# Altium integrated library WCAP-ASLI_rev15a.intlib: 107 symbols (part 2 of 3)
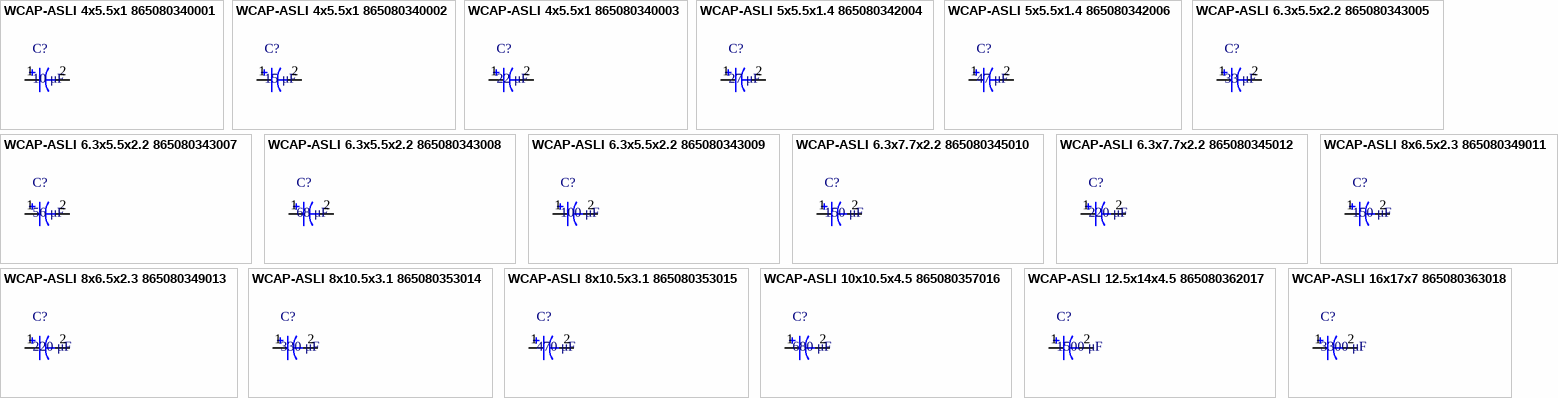
[diagram p6: symbols WCAP-ASLI 4x5.5x1 865080340001 to WCAP-ASLI 16x17x7 865080363018]

## WCAP-ASLI 8x6.5x2.3 865080349011
designator C?, comment 150 μF
WCAP-ASLI Aluminum Electrolytic Capacitors , 150 μF; + / - 20%; 16 V , 8 x 6,5; Manufacturer: Wurth Elektronik; partNo: 865080349011; E-mail: libraries@we-online.com; Characteristics: Aluminum Electrolytic Capacitor;Recommended soldering: Reflow;Operating temperature: –55 °C to +105 °C;Low impedance product series;Load life: 2000 h @ +105 °C; ComponentLink1Description: Manufacturer; ComponentLink1URL: http://www.we-online.com; ComponentLink2Description: Datasheet; ComponentLink2URL: http://katalog.we-online.de/pbs/datasheet/865080349011.pdf; Created by: Karrer Zheng; Created Date: 5/13/2015; Capacitance: 150 μF; Application: Energy storage or high frequency filtering in the low voltage circuit; used as power supply filtering in general switching power supply, DC-DC converter, AC-DC converter, conversion adapter, charger, TV, VCR, DC motor circuit filter, digital audio, digital TV, digital camera, digital video camera, satellite receiver, equipment control panel and etc.
footprint WCAP-ASLI 8x6.5x2.3
pins: 1, 2

## WCAP-ASLI 8x6.5x2.3 865080349013
designator C?, comment 220 μF
WCAP-ASLI Aluminum Electrolytic Capacitors , 220 μF; + / - 20%; 16 V , 8 x 6,5; Manufacturer: Wurth Elektronik; partNo: 865080349013; E-mail: libraries@we-online.com; Characteristics: Aluminum Electrolytic Capacitor;Recommended soldering: Reflow;Operating temperature: –55 °C to +105 °C;Low impedance product series;Load life: 2000 h @ +105 °C; ComponentLink1Description: Manufacturer; ComponentLink1URL: http://www.we-online.com; ComponentLink2Description: Datasheet; ComponentLink2URL: http://katalog.we-online.de/pbs/datasheet/865080349013.pdf; Created by: Karrer Zheng; Created Date: 5/13/2015; Capacitance: 220 μF; Application: Energy storage or high frequency filtering in the low voltage circuit; used as power supply filtering in general switching power supply, DC-DC converter, AC-DC converter, conversion adapter, charger, TV, VCR, DC motor circuit filter, digital audio, digital TV, digital camera, digital video camera, satellite receiver, equipment control panel and etc.
footprint WCAP-ASLI 8x6.5x2.3
pins: 1, 2

## WCAP-ASLI 8x10.5x3.1 865080353014
designator C?, comment 330 μF
WCAP-ASLI Aluminum Electrolytic Capacitors , 330 μF; + / - 20%; 16 V , 8 x 10,5; Manufacturer: Wurth Elektronik; partNo: 865080353014; E-mail: libraries@we-online.com; Characteristics: Aluminum Electrolytic Capacitor;Recommended soldering: Reflow;Operating temperature: –55 °C to +105 °C;Low impedance product series;Load life: 2000 h @ +105 °C; ComponentLink1Description: Manufacturer; ComponentLink1URL: http://www.we-online.com; ComponentLink2Description: Datasheet; ComponentLink2URL: http://katalog.we-online.de/pbs/datasheet/865080353014.pdf; Created by: Karrer Zheng; Created Date: 5/13/2015; Capacitance: 330 μF; Application: Energy storage or high frequency filtering in the low voltage circuit; used as power supply filtering in general switching power supply, DC-DC converter, AC-DC converter, conversion adapter, charger, TV, VCR, DC motor circuit filter, digital audio, digital TV, digital camera, digital video camera, satellite receiver, equipment control panel and etc.
footprint WCAP-ASLI 8x10.5x3.1
pins: 1, 2

## WCAP-ASLI 8x10.5x3.1 865080353015
designator C?, comment 470 μF
WCAP-ASLI Aluminum Electrolytic Capacitors , 470 μF; + / - 20%; 16 V , 8 x 10,5; Manufacturer: Wurth Elektronik; partNo: 865080353015; E-mail: libraries@we-online.com; Characteristics: Aluminum Electrolytic Capacitor;Recommended soldering: Reflow;Operating temperature: –55 °C to +105 °C;Low impedance product series;Load life: 2000 h @ +105 °C; ComponentLink1Description: Manufacturer; ComponentLink1URL: http://www.we-online.com; ComponentLink2Description: Datasheet; ComponentLink2URL: http://katalog.we-online.de/pbs/datasheet/865080353015.pdf; Created by: Karrer Zheng; Created Date: 5/13/2015; Capacitance: 470 μF; Application: Energy storage or high frequency filtering in the low voltage circuit; used as power supply filtering in general switching power supply, DC-DC converter, AC-DC converter, conversion adapter, charger, TV, VCR, DC motor circuit filter, digital audio, digital TV, digital camera, digital video camera, satellite receiver, equipment control panel and etc.
footprint WCAP-ASLI 8x10.5x3.1
pins: 1, 2

## WCAP-ASLI 10x10.5x4.5 865080357016
designator C?, comment 680 μF
WCAP-ASLI Aluminum Electrolytic Capacitors , 680 μF; + / - 20%; 16 V , 10 x 10,5; Manufacturer: Wurth Elektronik; partNo: 865080357016; E-mail: libraries@we-online.com; Characteristics: Aluminum Electrolytic Capacitor;Recommended soldering: Reflow;Operating temperature: –55 °C to +105 °C;Low impedance product series;Load life: 2000 h @ +105 °C; ComponentLink1Description: Manufacturer; ComponentLink1URL: http://www.we-online.com; ComponentLink2Description: Datasheet; ComponentLink2URL: http://katalog.we-online.de/pbs/datasheet/865080357016.pdf; Created by: Karrer Zheng; Created Date: 5/13/2015; Capacitance: 680 μF; Application: Energy storage or high frequency filtering in the low voltage circuit; used as power supply filtering in general switching power supply, DC-DC converter, AC-DC converter, conversion adapter, charger, TV, VCR, DC motor circuit filter, digital audio, digital TV, digital camera, digital video camera, satellite receiver, equipment control panel and etc.
footprint WCAP-ASLI 10x10.5x4.5
pins: 1, 2

## WCAP-ASLI 12.5x14x4.5 865080362017
designator C?, comment 1500 μF
WCAP-ASLI Aluminum Electrolytic Capacitors , 1500 μF; + / - 20%; 16 V , 12,5 x 14; Manufacturer: Wurth Elektronik; partNo: 865080362017; E-mail: libraries@we-online.com; Characteristics: Aluminum Electrolytic Capacitor;Recommended soldering: Reflow;Operating temperature: –55 °C to +105 °C;Low impedance product series;Load life: 2000 h @ +105 °C; ComponentLink1Description: Manufacturer; ComponentLink1URL: http://www.we-online.com; ComponentLink2Description: Datasheet; ComponentLink2URL: http://katalog.we-online.de/pbs/datasheet/865080362017.pdf; Created by: Karrer Zheng; Created Date: 5/13/2015; Capacitance: 1500 μF; Application: Energy storage or high frequency filtering in the low voltage circuit; used as power supply filtering in general switching power supply, DC-DC converter, AC-DC converter, conversion adapter, charger, TV, VCR, DC motor circuit filter, digital audio, digital TV, digital camera, digital video camera, satellite receiver, equipment control panel and etc.
footprint WCAP-ASLI 12.5x14x4.5
pins: 1, 2

## WCAP-ASLI 16x17x7 865080363018
designator C?, comment 3300 μF
WCAP-ASLI Aluminum Electrolytic Capacitors , 3300 μF; + / - 20%; 16 V , 16 x 17; Manufacturer: Wurth Elektronik; partNo: 865080363018; E-mail: libraries@we-online.com; Characteristics: Aluminum Electrolytic Capacitor;Recommended soldering: Reflow;Operating temperature: –55 °C to +105 °C;Low impedance product series;Load life: 2000 h @ +105 °C; ComponentLink1Description: Manufacturer; ComponentLink1URL: http://www.we-online.com; ComponentLink2Description: Datasheet; ComponentLink2URL: http://katalog.we-online.de/pbs/datasheet/865080363018.pdf; Created by: Karrer Zheng; Created Date: 5/13/2015; Capacitance: 3300 μF; Application: Energy storage or high frequency filtering in the low voltage circuit; used as power supply filtering in general switching power supply, DC-DC converter, AC-DC converter, conversion adapter, charger, TV, VCR, DC motor circuit filter, digital audio, digital TV, digital camera, digital video camera, satellite receiver, equipment control panel and etc.
footprint WCAP-ASLI 16x17x7
pins: 1, 2


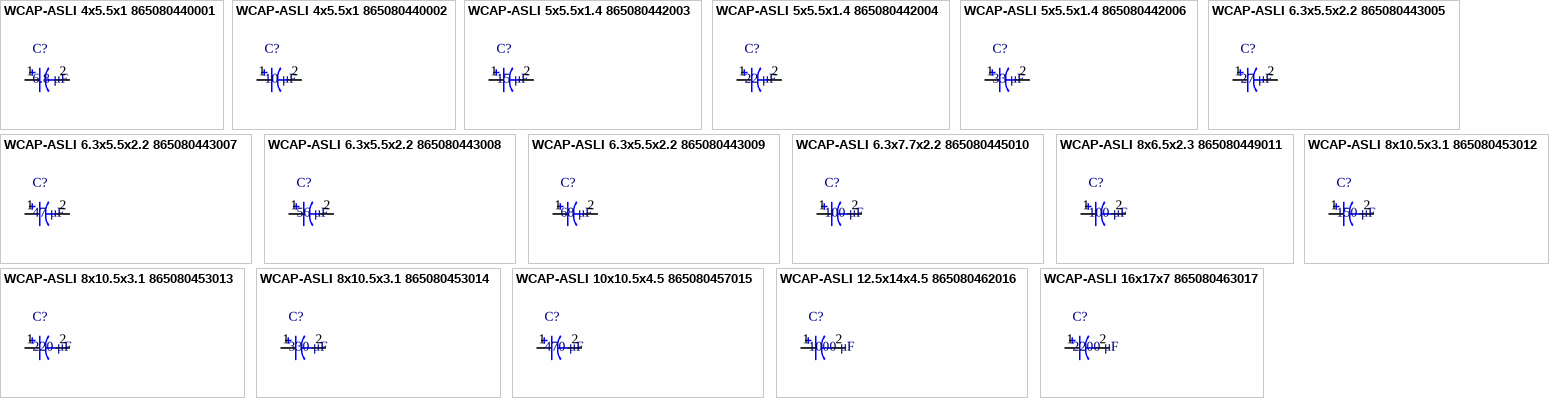
[diagram p3: symbols WCAP-ASLI 4x5.5x1 865080440001 to WCAP-ASLI 16x17x7 865080463017]

## WCAP-ASLI 4x5.5x1 865080440001
designator C?, comment 6.8 μF
WCAP-ASLI Aluminum Electrolytic Capacitors , 6,8 μF; + / - 20%; 25 V , 4 x 5,5; Manufacturer: Wurth Elektronik; partNo: 865080440001; E-mail: libraries@we-online.com; Characteristics: Aluminum Electrolytic Capacitor;Recommended soldering: Reflow;Operating temperature: –55 °C to +105 °C;Low impedance product series;Load life: 2000 h @ +105 °C; ComponentLink1Description: Manufacturer; ComponentLink1URL: http://www.we-online.com; ComponentLink2Description: Datasheet; ComponentLink2URL: http://katalog.we-online.de/pbs/datasheet/865080440001.pdf; Created by: Karrer Zheng; Created Date: 5/13/2015; Capacitance: 6.8 μF; Application: Energy storage or high frequency filtering in the low voltage circuit; used as power supply filtering in general switching power supply, DC-DC converter, AC-DC converter, conversion adapter, charger, TV, VCR, DC motor circuit filter, digital audio, digital TV, digital camera, digital video camera, satellite receiver, equipment control panel and etc.
footprint WCAP-ASLI 4x5.5x1
pins: 1, 2

## WCAP-ASLI 4x5.5x1 865080440002
designator C?, comment 10 μF
WCAP-ASLI Aluminum Electrolytic Capacitors , 10 μF; + / - 20%; 25 V , 4 x 5,5; Manufacturer: Wurth Elektronik; partNo: 865080440002; E-mail: libraries@we-online.com; Characteristics: Aluminum Electrolytic Capacitor;Recommended soldering: Reflow;Operating temperature: –55 °C to +105 °C;Low impedance product series;Load life: 2000 h @ +105 °C; ComponentLink1Description: Manufacturer; ComponentLink1URL: http://www.we-online.com; ComponentLink2Description: Datasheet; ComponentLink2URL: http://katalog.we-online.de/pbs/datasheet/865080440002.pdf; Created by: Karrer Zheng; Created Date: 5/13/2015; Capacitance: 10 μF; Application: Energy storage or high frequency filtering in the low voltage circuit; used as power supply filtering in general switching power supply, DC-DC converter, AC-DC converter, conversion adapter, charger, TV, VCR, DC motor circuit filter, digital audio, digital TV, digital camera, digital video camera, satellite receiver, equipment control panel and etc.
footprint WCAP-ASLI 4x5.5x1
pins: 1, 2

## WCAP-ASLI 5x5.5x1.4 865080442003
designator C?, comment 15 μF
WCAP-ASLI Aluminum Electrolytic Capacitors , 15 μF; + / - 20%; 25 V , 5 x 5,5; Manufacturer: Wurth Elektronik; partNo: 865080442003; E-mail: libraries@we-online.com; Characteristics: Aluminum Electrolytic Capacitor;Recommended soldering: Reflow;Operating temperature: –55 °C to +105 °C;Low impedance product series;Load life: 2000 h @ +105 °C; ComponentLink1Description: Manufacturer; ComponentLink1URL: http://www.we-online.com; ComponentLink2Description: Datasheet; ComponentLink2URL: http://katalog.we-online.de/pbs/datasheet/865080442003.pdf; Created by: Karrer Zheng; Created Date: 5/13/2015; Capacitance: 15 μF; Application: Energy storage or high frequency filtering in the low voltage circuit; used as power supply filtering in general switching power supply, DC-DC converter, AC-DC converter, conversion adapter, charger, TV, VCR, DC motor circuit filter, digital audio, digital TV, digital camera, digital video camera, satellite receiver, equipment control panel and etc.
footprint WCAP-ASLI 5x5.5x1.4
pins: 1, 2

## WCAP-ASLI 5x5.5x1.4 865080442004
designator C?, comment 22 μF
WCAP-ASLI Aluminum Electrolytic Capacitors , 22 μF; + / - 20%; 25 V , 5 x 5,5; Manufacturer: Wurth Elektronik; partNo: 865080442004; E-mail: libraries@we-online.com; Characteristics: Aluminum Electrolytic Capacitor;Recommended soldering: Reflow;Operating temperature: –55 °C to +105 °C;Low impedance product series;Load life: 2000 h @ +105 °C; ComponentLink1Description: Manufacturer; ComponentLink1URL: http://www.we-online.com; ComponentLink2Description: Datasheet; ComponentLink2URL: http://katalog.we-online.de/pbs/datasheet/865080442004.pdf; Created by: Karrer Zheng; Created Date: 5/13/2015; Capacitance: 22 μF; Application: Energy storage or high frequency filtering in the low voltage circuit; used as power supply filtering in general switching power supply, DC-DC converter, AC-DC converter, conversion adapter, charger, TV, VCR, DC motor circuit filter, digital audio, digital TV, digital camera, digital video camera, satellite receiver, equipment control panel and etc.
footprint WCAP-ASLI 5x5.5x1.4
pins: 1, 2

## WCAP-ASLI 5x5.5x1.4 865080442006
designator C?, comment 33 μF
WCAP-ASLI Aluminum Electrolytic Capacitors , 33 μF; + / - 20%; 25 V , 5 x 5,5; Manufacturer: Wurth Elektronik; partNo: 865080442006; E-mail: libraries@we-online.com; Characteristics: Aluminum Electrolytic Capacitor;Recommended soldering: Reflow;Operating temperature: –55 °C to +105 °C;Low impedance product series;Load life: 2000 h @ +105 °C; ComponentLink1Description: Manufacturer; ComponentLink1URL: http://www.we-online.com; ComponentLink2Description: Datasheet; ComponentLink2URL: http://katalog.we-online.de/pbs/datasheet/865080442006.pdf; Created by: Karrer Zheng; Created Date: 5/13/2015; Capacitance: 33 μF; Application: Energy storage or high frequency filtering in the low voltage circuit; used as power supply filtering in general switching power supply, DC-DC converter, AC-DC converter, conversion adapter, charger, TV, VCR, DC motor circuit filter, digital audio, digital TV, digital camera, digital video camera, satellite receiver, equipment control panel and etc.
footprint WCAP-ASLI 5x5.5x1.4
pins: 1, 2

## WCAP-ASLI 6.3x5.5x2.2 865080443005
designator C?, comment 27 μF
WCAP-ASLI Aluminum Electrolytic Capacitors , 27 μF; + / - 20%; 25 V , 6,3 x 5,5; Manufacturer: Wurth Elektronik; partNo: 865080443005; E-mail: libraries@we-online.com; Characteristics: Aluminum Electrolytic Capacitor;Recommended soldering: Reflow;Operating temperature: –55 °C to +105 °C;Low impedance product series;Load life: 2000 h @ +105 °C; ComponentLink1Description: Manufacturer; ComponentLink1URL: http://www.we-online.com; ComponentLink2Description: Datasheet; ComponentLink2URL: http://katalog.we-online.de/pbs/datasheet/865080443005.pdf; Created by: Karrer Zheng; Created Date: 5/13/2015; Capacitance: 27 μF; Application: Energy storage or high frequency filtering in the low voltage circuit; used as power supply filtering in general switching power supply, DC-DC converter, AC-DC converter, conversion adapter, charger, TV, VCR, DC motor circuit filter, digital audio, digital TV, digital camera, digital video camera, satellite receiver, equipment control panel and etc.
footprint WCAP-ASLI 6.3x5.5x2.2
pins: 1, 2

## WCAP-ASLI 6.3x5.5x2.2 865080443007
designator C?, comment 47 μF
WCAP-ASLI Aluminum Electrolytic Capacitors , 47 μF; + / - 20%; 25 V , 6,3 x 5,5; Manufacturer: Wurth Elektronik; partNo: 865080443007; E-mail: libraries@we-online.com; Characteristics: Aluminum Electrolytic Capacitor;Recommended soldering: Reflow;Operating temperature: –55 °C to +105 °C;Low impedance product series;Load life: 2000 h @ +105 °C; ComponentLink1Description: Manufacturer; ComponentLink1URL: http://www.we-online.com; ComponentLink2Description: Datasheet; ComponentLink2URL: http://katalog.we-online.de/pbs/datasheet/865080443007.pdf; Created by: Karrer Zheng; Created Date: 5/13/2015; Capacitance: 47 μF; Application: Energy storage or high frequency filtering in the low voltage circuit; used as power supply filtering in general switching power supply, DC-DC converter, AC-DC converter, conversion adapter, charger, TV, VCR, DC motor circuit filter, digital audio, digital TV, digital camera, digital video camera, satellite receiver, equipment control panel and etc.
footprint WCAP-ASLI 6.3x5.5x2.2
pins: 1, 2

## WCAP-ASLI 6.3x5.5x2.2 865080443008
designator C?, comment 56 μF
WCAP-ASLI Aluminum Electrolytic Capacitors , 56 μF; + / - 20%; 25 V , 6,3 x 5,5; Manufacturer: Wurth Elektronik; partNo: 865080443008; E-mail: libraries@we-online.com; Characteristics: Aluminum Electrolytic Capacitor;Recommended soldering: Reflow;Operating temperature: –55 °C to +105 °C;Low impedance product series;Load life: 2000 h @ +105 °C; ComponentLink1Description: Manufacturer; ComponentLink1URL: http://www.we-online.com; ComponentLink2Description: Datasheet; ComponentLink2URL: http://katalog.we-online.de/pbs/datasheet/865080443008.pdf; Created by: Karrer Zheng; Created Date: 5/13/2015; Capacitance: 56 μF; Application: Energy storage or high frequency filtering in the low voltage circuit; used as power supply filtering in general switching power supply, DC-DC converter, AC-DC converter, conversion adapter, charger, TV, VCR, DC motor circuit filter, digital audio, digital TV, digital camera, digital video camera, satellite receiver, equipment control panel and etc.
footprint WCAP-ASLI 6.3x5.5x2.2
pins: 1, 2

## WCAP-ASLI 6.3x5.5x2.2 865080443009
designator C?, comment 68 μF
WCAP-ASLI Aluminum Electrolytic Capacitors , 68 μF; + / - 20%; 25 V , 6,3 x 5,5; Manufacturer: Wurth Elektronik; partNo: 865080443009; E-mail: libraries@we-online.com; Characteristics: Aluminum Electrolytic Capacitor;Recommended soldering: Reflow;Operating temperature: –55 °C to +105 °C;Low impedance product series;Load life: 2000 h @ +105 °C; ComponentLink1Description: Manufacturer; ComponentLink1URL: http://www.we-online.com; ComponentLink2Description: Datasheet; ComponentLink2URL: http://katalog.we-online.de/pbs/datasheet/865080443009.pdf; Created by: Karrer Zheng; Created Date: 5/13/2015; Capacitance: 68 μF; Application: Energy storage or high frequency filtering in the low voltage circuit; used as power supply filtering in general switching power supply, DC-DC converter, AC-DC converter, conversion adapter, charger, TV, VCR, DC motor circuit filter, digital audio, digital TV, digital camera, digital video camera, satellite receiver, equipment control panel and etc.
footprint WCAP-ASLI 6.3x5.5x2.2
pins: 1, 2

## WCAP-ASLI 6.3x7.7x2.2 865080445010
designator C?, comment 100 μF
WCAP-ASLI Aluminum Electrolytic Capacitors , 100 μF; + / - 20%; 25 V , 6,3 x 7,7; Manufacturer: Wurth Elektronik; partNo: 865080445010; E-mail: libraries@we-online.com; Characteristics: Aluminum Electrolytic Capacitor;Recommended soldering: Reflow;Operating temperature: –55 °C to +105 °C;Low impedance product series;Load life: 2000 h @ +105 °C; ComponentLink1Description: Manufacturer; ComponentLink1URL: http://www.we-online.com; ComponentLink2Description: Datasheet; ComponentLink2URL: http://katalog.we-online.de/pbs/datasheet/865080445010.pdf; Created by: Karrer Zheng; Created Date: 5/13/2015; Capacitance: 100 μF; Application: Energy storage or high frequency filtering in the low voltage circuit; used as power supply filtering in general switching power supply, DC-DC converter, AC-DC converter, conversion adapter, charger, TV, VCR, DC motor circuit filter, digital audio, digital TV, digital camera, digital video camera, satellite receiver, equipment control panel and etc.
footprint WCAP-ASLI 6.3x7.7x2.2
pins: 1, 2

## WCAP-ASLI 8x6.5x2.3 865080449011
designator C?, comment 100 μF
WCAP-ASLI Aluminum Electrolytic Capacitors , 100 μF; + / - 20%; 25 V , 8 x 6,5; Manufacturer: Wurth Elektronik; partNo: 865080449011; E-mail: libraries@we-online.com; Characteristics: Aluminum Electrolytic Capacitor;Recommended soldering: Reflow;Operating temperature: –55 °C to +105 °C;Low impedance product series;Load life: 2000 h @ +105 °C; ComponentLink1Description: Manufacturer; ComponentLink1URL: http://www.we-online.com; ComponentLink2Description: Datasheet; ComponentLink2URL: http://katalog.we-online.de/pbs/datasheet/865080449011.pdf; Created by: Karrer Zheng; Created Date: 5/13/2015; Capacitance: 100 μF; Application: Energy storage or high frequency filtering in the low voltage circuit; used as power supply filtering in general switching power supply, DC-DC converter, AC-DC converter, conversion adapter, charger, TV, VCR, DC motor circuit filter, digital audio, digital TV, digital camera, digital video camera, satellite receiver, equipment control panel and etc.
footprint WCAP-ASLI 8x6.5x2.3
pins: 1, 2

## WCAP-ASLI 8x10.5x3.1 865080453012
designator C?, comment 150 μF
WCAP-ASLI Aluminum Electrolytic Capacitors , 150 μF; + / - 20%; 25 V , 8 x 10,5; Manufacturer: Wurth Elektronik; partNo: 865080453012; E-mail: libraries@we-online.com; Characteristics: Aluminum Electrolytic Capacitor;Recommended soldering: Reflow;Operating temperature: –55 °C to +105 °C;Low impedance product series;Load life: 2000 h @ +105 °C; ComponentLink1Description: Manufacturer; ComponentLink1URL: http://www.we-online.com; ComponentLink2Description: Datasheet; ComponentLink2URL: http://katalog.we-online.de/pbs/datasheet/865080453012.pdf; Created by: Karrer Zheng; Created Date: 5/13/2015; Capacitance: 150 μF; Application: Energy storage or high frequency filtering in the low voltage circuit; used as power supply filtering in general switching power supply, DC-DC converter, AC-DC converter, conversion adapter, charger, TV, VCR, DC motor circuit filter, digital audio, digital TV, digital camera, digital video camera, satellite receiver, equipment control panel and etc.
footprint WCAP-ASLI 8x10.5x3.1
pins: 1, 2

## WCAP-ASLI 8x10.5x3.1 865080453013
designator C?, comment 220 μF
WCAP-ASLI Aluminum Electrolytic Capacitors , 220 μF; + / - 20%; 25 V , 8 x 10,5; Manufacturer: Wurth Elektronik; partNo: 865080453013; E-mail: libraries@we-online.com; Characteristics: Aluminum Electrolytic Capacitor;Recommended soldering: Reflow;Operating temperature: –55 °C to +105 °C;Low impedance product series;Load life: 2000 h @ +105 °C; ComponentLink1Description: Manufacturer; ComponentLink1URL: http://www.we-online.com; ComponentLink2Description: Datasheet; ComponentLink2URL: http://katalog.we-online.de/pbs/datasheet/865080453013.pdf; Created by: Karrer Zheng; Created Date: 5/13/2015; Capacitance: 220 μF; Application: Energy storage or high frequency filtering in the low voltage circuit; used as power supply filtering in general switching power supply, DC-DC converter, AC-DC converter, conversion adapter, charger, TV, VCR, DC motor circuit filter, digital audio, digital TV, digital camera, digital video camera, satellite receiver, equipment control panel and etc.
footprint WCAP-ASLI 8x10.5x3.1
pins: 1, 2

## WCAP-ASLI 8x10.5x3.1 865080453014
designator C?, comment 330 μF
WCAP-ASLI Aluminum Electrolytic Capacitors , 330 μF; + / - 20%; 25 V , 8 x 10,5; Manufacturer: Wurth Elektronik; partNo: 865080453014; E-mail: libraries@we-online.com; Characteristics: Aluminum Electrolytic Capacitor;Recommended soldering: Reflow;Operating temperature: –55 °C to +105 °C;Low impedance product series;Load life: 2000 h @ +105 °C; ComponentLink1Description: Manufacturer; ComponentLink1URL: http://www.we-online.com; ComponentLink2Description: Datasheet; ComponentLink2URL: http://katalog.we-online.de/pbs/datasheet/865080453014.pdf; Created by: Karrer Zheng; Created Date: 5/13/2015; Capacitance: 330 μF; Application: Energy storage or high frequency filtering in the low voltage circuit; used as power supply filtering in general switching power supply, DC-DC converter, AC-DC converter, conversion adapter, charger, TV, VCR, DC motor circuit filter, digital audio, digital TV, digital camera, digital video camera, satellite receiver, equipment control panel and etc.
footprint WCAP-ASLI 8x10.5x3.1
pins: 1, 2

## WCAP-ASLI 10x10.5x4.5 865080457015
designator C?, comment 470 μF
WCAP-ASLI Aluminum Electrolytic Capacitors , 470 μF; + / - 20%; 25 V , 10 x 10,5; Manufacturer: Wurth Elektronik; partNo: 865080457015; E-mail: libraries@we-online.com; Characteristics: Aluminum Electrolytic Capacitor;Recommended soldering: Reflow;Operating temperature: –55 °C to +105 °C;Low impedance product series;Load life: 2000 h @ +105 °C; ComponentLink1Description: Manufacturer; ComponentLink1URL: http://www.we-online.com; ComponentLink2Description: Datasheet; ComponentLink2URL: http://katalog.we-online.de/pbs/datasheet/865080457015.pdf; Created by: Karrer Zheng; Created Date: 5/13/2015; Capacitance: 470 μF; Application: Energy storage or high frequency filtering in the low voltage circuit; used as power supply filtering in general switching power supply, DC-DC converter, AC-DC converter, conversion adapter, charger, TV, VCR, DC motor circuit filter, digital audio, digital TV, digital camera, digital video camera, satellite receiver, equipment control panel and etc.
footprint WCAP-ASLI 10x10.5x4.5
pins: 1, 2

## WCAP-ASLI 12.5x14x4.5 865080462016
designator C?, comment 1000 μF
WCAP-ASLI Aluminum Electrolytic Capacitors , 1000 μF; + / - 20%; 25 V , 12,5 x 14; Manufacturer: Wurth Elektronik; partNo: 865080462016; E-mail: libraries@we-online.com; Characteristics: Aluminum Electrolytic Capacitor;Recommended soldering: Reflow;Operating temperature: –55 °C to +105 °C;Low impedance product series;Load life: 2000 h @ +105 °C; ComponentLink1Description: Manufacturer; ComponentLink1URL: http://www.we-online.com; ComponentLink2Description: Datasheet; ComponentLink2URL: http://katalog.we-online.de/pbs/datasheet/865080462016.pdf; Created by: Karrer Zheng; Created Date: 5/13/2015; Capacitance: 1000 μF; Application: Energy storage or high frequency filtering in the low voltage circuit; used as power supply filtering in general switching power supply, DC-DC converter, AC-DC converter, conversion adapter, charger, TV, VCR, DC motor circuit filter, digital audio, digital TV, digital camera, digital video camera, satellite receiver, equipment control panel and etc.
footprint WCAP-ASLI 12.5x14x4.5
pins: 1, 2

## WCAP-ASLI 16x17x7 865080463017
designator C?, comment 2200 μF
WCAP-ASLI Aluminum Electrolytic Capacitors , 2200 μF; + / - 20%; 25 V , 16 x 17; Manufacturer: Wurth Elektronik; partNo: 865080463017; E-mail: libraries@we-online.com; Characteristics: Aluminum Electrolytic Capacitor;Recommended soldering: Reflow;Operating temperature: –55 °C to +105 °C;Low impedance product series;Load life: 2000 h @ +105 °C; ComponentLink1Description: Manufacturer; ComponentLink1URL: http://www.we-online.com; ComponentLink2Description: Datasheet; ComponentLink2URL: http://katalog.we-online.de/pbs/datasheet/865080463017.pdf; Created by: Karrer Zheng; Created Date: 5/13/2015; Capacitance: 2200 μF; Application: Energy storage or high frequency filtering in the low voltage circuit; used as power supply filtering in general switching power supply, DC-DC converter, AC-DC converter, conversion adapter, charger, TV, VCR, DC motor circuit filter, digital audio, digital TV, digital camera, digital video camera, satellite receiver, equipment control panel and etc.
footprint WCAP-ASLI 16x17x7
pins: 1, 2


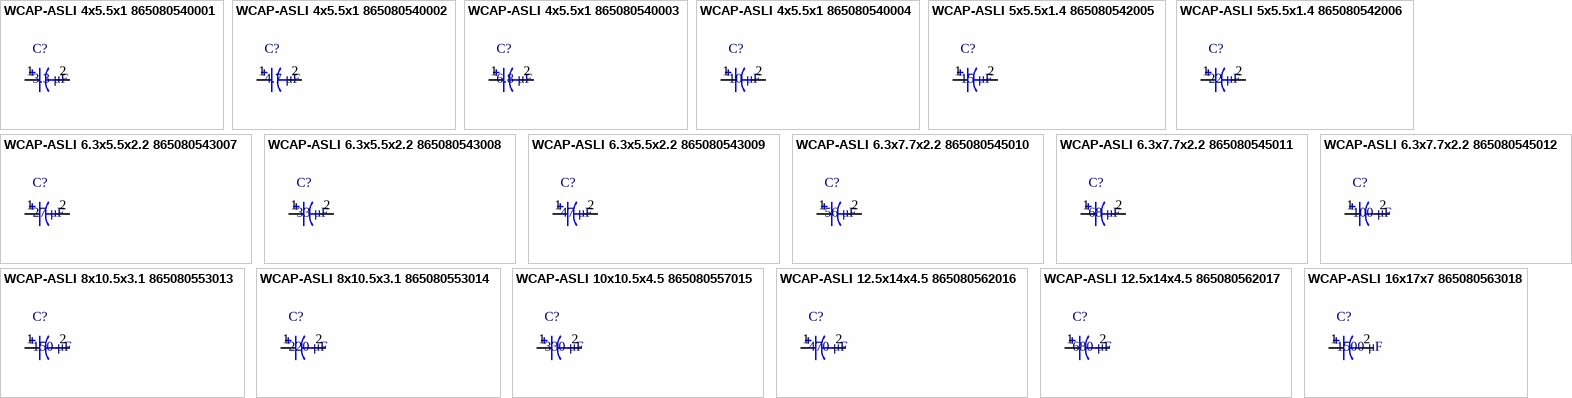
[diagram p4: symbols WCAP-ASLI 4x5.5x1 865080540001 to WCAP-ASLI 16x17x7 865080563018]

## WCAP-ASLI 4x5.5x1 865080540001
designator C?, comment 3.3 μF
WCAP-ASLI Aluminum Electrolytic Capacitors , 3,3 μF; + / - 20%; 35 V , 4 x 5,5; Manufacturer: Wurth Elektronik; partNo: 865080540001; E-mail: libraries@we-online.com; Characteristics: Aluminum Electrolytic Capacitor;Recommended soldering: Reflow;Operating temperature: –55 °C to +105 °C;Low impedance product series;Load life: 2000 h @ +105 °C; ComponentLink1Description: Manufacturer; ComponentLink1URL: http://www.we-online.com; ComponentLink2Description: Datasheet; ComponentLink2URL: http://katalog.we-online.de/pbs/datasheet/865080540001.pdf; Created by: Karrer Zheng; Created Date: 5/13/2015; Capacitance: 3.3 μF; Application: Energy storage or high frequency filtering in the low voltage circuit; used as power supply filtering in general switching power supply, DC-DC converter, AC-DC converter, conversion adapter, charger, TV, VCR, DC motor circuit filter, digital audio, digital TV, digital camera, digital video camera, satellite receiver, equipment control panel and etc.
footprint WCAP-ASLI 4x5.5x1
pins: 1, 2

## WCAP-ASLI 4x5.5x1 865080540002
designator C?, comment 4.7 μF
WCAP-ASLI Aluminum Electrolytic Capacitors , 4,7 μF; + / - 20%; 35 V , 4 x 5,5; Manufacturer: Wurth Elektronik; partNo: 865080540002; E-mail: libraries@we-online.com; Characteristics: Aluminum Electrolytic Capacitor;Recommended soldering: Reflow;Operating temperature: –55 °C to +105 °C;Low impedance product series;Load life: 2000 h @ +105 °C; ComponentLink1Description: Manufacturer; ComponentLink1URL: http://www.we-online.com; ComponentLink2Description: Datasheet; ComponentLink2URL: http://katalog.we-online.de/pbs/datasheet/865080540002.pdf; Created by: Karrer Zheng; Created Date: 5/13/2015; Capacitance: 4.7 μF; Application: Energy storage or high frequency filtering in the low voltage circuit; used as power supply filtering in general switching power supply, DC-DC converter, AC-DC converter, conversion adapter, charger, TV, VCR, DC motor circuit filter, digital audio, digital TV, digital camera, digital video camera, satellite receiver, equipment control panel and etc.
footprint WCAP-ASLI 4x5.5x1
pins: 1, 2

## WCAP-ASLI 4x5.5x1 865080540003
designator C?, comment 6.8 μF
WCAP-ASLI Aluminum Electrolytic Capacitors , 6,8 μF; + / - 20%; 35 V , 4 x 5,5; Manufacturer: Wurth Elektronik; partNo: 865080540003; E-mail: libraries@we-online.com; Characteristics: Aluminum Electrolytic Capacitor;Recommended soldering: Reflow;Operating temperature: –55 °C to +105 °C;Low impedance product series;Load life: 2000 h @ +105 °C; ComponentLink1Description: Manufacturer; ComponentLink1URL: http://www.we-online.com; ComponentLink2Description: Datasheet; ComponentLink2URL: http://katalog.we-online.de/pbs/datasheet/865080540003.pdf; Created by: Karrer Zheng; Created Date: 5/13/2015; Capacitance: 6.8 μF; Application: Energy storage or high frequency filtering in the low voltage circuit; used as power supply filtering in general switching power supply, DC-DC converter, AC-DC converter, conversion adapter, charger, TV, VCR, DC motor circuit filter, digital audio, digital TV, digital camera, digital video camera, satellite receiver, equipment control panel and etc.
footprint WCAP-ASLI 4x5.5x1
pins: 1, 2

## WCAP-ASLI 4x5.5x1 865080540004
designator C?, comment 10 μF
WCAP-ASLI Aluminum Electrolytic Capacitors , 10 μF; + / - 20%; 35 V , 4 x 5,5; Manufacturer: Wurth Elektronik; partNo: 865080540004; E-mail: libraries@we-online.com; Characteristics: Aluminum Electrolytic Capacitor;Recommended soldering: Reflow;Operating temperature: –55 °C to +105 °C;Low impedance product series;Load life: 2000 h @ +105 °C; ComponentLink1Description: Manufacturer; ComponentLink1URL: http://www.we-online.com; ComponentLink2Description: Datasheet; ComponentLink2URL: http://katalog.we-online.de/pbs/datasheet/865080540004.pdf; Created by: Karrer Zheng; Created Date: 5/13/2015; Capacitance: 10 μF; Application: Energy storage or high frequency filtering in the low voltage circuit; used as power supply filtering in general switching power supply, DC-DC converter, AC-DC converter, conversion adapter, charger, TV, VCR, DC motor circuit filter, digital audio, digital TV, digital camera, digital video camera, satellite receiver, equipment control panel and etc.
footprint WCAP-ASLI 4x5.5x1
pins: 1, 2

## WCAP-ASLI 5x5.5x1.4 865080542005
designator C?, comment 15 μF
WCAP-ASLI Aluminum Electrolytic Capacitors , 15 μF; + / - 20%; 35 V , 5 x 5,5; Manufacturer: Wurth Elektronik; partNo: 865080542005; E-mail: libraries@we-online.com; Characteristics: Aluminum Electrolytic Capacitor;Recommended soldering: Reflow;Operating temperature: –55 °C to +105 °C;Low impedance product series;Load life: 2000 h @ +105 °C; ComponentLink1Description: Manufacturer; ComponentLink1URL: http://www.we-online.com; ComponentLink2Description: Datasheet; ComponentLink2URL: http://katalog.we-online.de/pbs/datasheet/865080542005.pdf; Created by: Karrer Zheng; Created Date: 5/13/2015; Capacitance: 15 μF; Application: Energy storage or high frequency filtering in the low voltage circuit; used as power supply filtering in general switching power supply, DC-DC converter, AC-DC converter, conversion adapter, charger, TV, VCR, DC motor circuit filter, digital audio, digital TV, digital camera, digital video camera, satellite receiver, equipment control panel and etc.
footprint WCAP-ASLI 5x5.5x1.4
pins: 1, 2

## WCAP-ASLI 5x5.5x1.4 865080542006
designator C?, comment 22 μF
WCAP-ASLI Aluminum Electrolytic Capacitors , 22 μF; + / - 20%; 35 V , 5 x 5,5; Manufacturer: Wurth Elektronik; partNo: 865080542006; E-mail: libraries@we-online.com; Characteristics: Aluminum Electrolytic Capacitor;Recommended soldering: Reflow;Operating temperature: –55 °C to +105 °C;Low impedance product series;Load life: 2000 h @ +105 °C; ComponentLink1Description: Manufacturer; ComponentLink1URL: http://www.we-online.com; ComponentLink2Description: Datasheet; ComponentLink2URL: http://katalog.we-online.de/pbs/datasheet/865080542006.pdf; Created by: Karrer Zheng; Created Date: 5/13/2015; Capacitance: 22 μF; Application: Energy storage or high frequency filtering in the low voltage circuit; used as power supply filtering in general switching power supply, DC-DC converter, AC-DC converter, conversion adapter, charger, TV, VCR, DC motor circuit filter, digital audio, digital TV, digital camera, digital video camera, satellite receiver, equipment control panel and etc.
footprint WCAP-ASLI 5x5.5x1.4
pins: 1, 2

## WCAP-ASLI 6.3x5.5x2.2 865080543007
designator C?, comment 27 μF
WCAP-ASLI Aluminum Electrolytic Capacitors , 27 μF; + / - 20%; 35 V , 6,3 x 5,5; Manufacturer: Wurth Elektronik; partNo: 865080543007; E-mail: libraries@we-online.com; Characteristics: Aluminum Electrolytic Capacitor;Recommended soldering: Reflow;Operating temperature: –55 °C to +105 °C;Low impedance product series;Load life: 2000 h @ +105 °C; ComponentLink1Description: Manufacturer; ComponentLink1URL: http://www.we-online.com; ComponentLink2Description: Datasheet; ComponentLink2URL: http://katalog.we-online.de/pbs/datasheet/865080543007.pdf; Created by: Karrer Zheng; Created Date: 5/13/2015; Capacitance: 27 μF; Application: Energy storage or high frequency filtering in the low voltage circuit; used as power supply filtering in general switching power supply, DC-DC converter, AC-DC converter, conversion adapter, charger, TV, VCR, DC motor circuit filter, digital audio, digital TV, digital camera, digital video camera, satellite receiver, equipment control panel and etc.
footprint WCAP-ASLI 6.3x5.5x2.2
pins: 1, 2

## WCAP-ASLI 6.3x5.5x2.2 865080543008
designator C?, comment 33 μF
WCAP-ASLI Aluminum Electrolytic Capacitors , 33 μF; + / - 20%; 35 V , 6,3 x 5,5; Manufacturer: Wurth Elektronik; partNo: 865080543008; E-mail: libraries@we-online.com; Characteristics: Aluminum Electrolytic Capacitor;Recommended soldering: Reflow;Operating temperature: –55 °C to +105 °C;Low impedance product series;Load life: 2000 h @ +105 °C; ComponentLink1Description: Manufacturer; ComponentLink1URL: http://www.we-online.com; ComponentLink2Description: Datasheet; ComponentLink2URL: http://katalog.we-online.de/pbs/datasheet/865080543008.pdf; Created by: Karrer Zheng; Created Date: 5/13/2015; Capacitance: 33 μF; Application: Energy storage or high frequency filtering in the low voltage circuit; used as power supply filtering in general switching power supply, DC-DC converter, AC-DC converter, conversion adapter, charger, TV, VCR, DC motor circuit filter, digital audio, digital TV, digital camera, digital video camera, satellite receiver, equipment control panel and etc.
footprint WCAP-ASLI 6.3x5.5x2.2
pins: 1, 2

## WCAP-ASLI 6.3x5.5x2.2 865080543009
designator C?, comment 47 μF
WCAP-ASLI Aluminum Electrolytic Capacitors , 47 μF; + / - 20%; 35 V , 6,3 x 5,5; Manufacturer: Wurth Elektronik; partNo: 865080543009; E-mail: libraries@we-online.com; Characteristics: Aluminum Electrolytic Capacitor;Recommended soldering: Reflow;Operating temperature: –55 °C to +105 °C;Low impedance product series;Load life: 2000 h @ +105 °C; ComponentLink1Description: Manufacturer; ComponentLink1URL: http://www.we-online.com; ComponentLink2Description: Datasheet; ComponentLink2URL: http://katalog.we-online.de/pbs/datasheet/865080543009.pdf; Created by: Karrer Zheng; Created Date: 5/13/2015; Capacitance: 47 μF; Application: Energy storage or high frequency filtering in the low voltage circuit; used as power supply filtering in general switching power supply, DC-DC converter, AC-DC converter, conversion adapter, charger, TV, VCR, DC motor circuit filter, digital audio, digital TV, digital camera, digital video camera, satellite receiver, equipment control panel and etc.
footprint WCAP-ASLI 6.3x5.5x2.2
pins: 1, 2

## WCAP-ASLI 6.3x7.7x2.2 865080545010
designator C?, comment 56 μF
WCAP-ASLI Aluminum Electrolytic Capacitors , 56 μF; + / - 20%; 35 V , 6,3 x 7,7; Manufacturer: Wurth Elektronik; partNo: 865080545010; E-mail: libraries@we-online.com; Characteristics: Aluminum Electrolytic Capacitor;Recommended soldering: Reflow;Operating temperature: –55 °C to +105 °C;Low impedance product series;Load life: 2000 h @ +105 °C; ComponentLink1Description: Manufacturer; ComponentLink1URL: http://www.we-online.com; ComponentLink2Description: Datasheet; ComponentLink2URL: http://katalog.we-online.de/pbs/datasheet/865080545010.pdf; Created by: Karrer Zheng; Created Date: 5/13/2015; Capacitance: 56 μF; Application: Energy storage or high frequency filtering in the low voltage circuit; used as power supply filtering in general switching power supply, DC-DC converter, AC-DC converter, conversion adapter, charger, TV, VCR, DC motor circuit filter, digital audio, digital TV, digital camera, digital video camera, satellite receiver, equipment control panel and etc.
footprint WCAP-ASLI 6.3x7.7x2.2
pins: 1, 2

## WCAP-ASLI 6.3x7.7x2.2 865080545011
designator C?, comment 68 μF
WCAP-ASLI Aluminum Electrolytic Capacitors , 68 μF; + / - 20%; 35 V , 6,3 x 7,7; Manufacturer: Wurth Elektronik; partNo: 865080545011; E-mail: libraries@we-online.com; Characteristics: Aluminum Electrolytic Capacitor;Recommended soldering: Reflow;Operating temperature: –55 °C to +105 °C;Low impedance product series;Load life: 2000 h @ +105 °C; ComponentLink1Description: Manufacturer; ComponentLink1URL: http://www.we-online.com; ComponentLink2Description: Datasheet; ComponentLink2URL: http://katalog.we-online.de/pbs/datasheet/865080545011.pdf; Created by: Karrer Zheng; Created Date: 5/13/2015; Capacitance: 68 μF; Application: Energy storage or high frequency filtering in the low voltage circuit; used as power supply filtering in general switching power supply, DC-DC converter, AC-DC converter, conversion adapter, charger, TV, VCR, DC motor circuit filter, digital audio, digital TV, digital camera, digital video camera, satellite receiver, equipment control panel and etc.
footprint WCAP-ASLI 6.3x7.7x2.2
pins: 1, 2

## WCAP-ASLI 6.3x7.7x2.2 865080545012
designator C?, comment 100 μF
WCAP-ASLI Aluminum Electrolytic Capacitors , 100 μF; + / - 20%; 35 V , 6,3 x 7,7; Manufacturer: Wurth Elektronik; partNo: 865080545012; E-mail: libraries@we-online.com; Characteristics: Aluminum Electrolytic Capacitor;Recommended soldering: Reflow;Operating temperature: –55 °C to +105 °C;Low impedance product series;Load life: 2000 h @ +105 °C; ComponentLink1Description: Manufacturer; ComponentLink1URL: http://www.we-online.com; ComponentLink2Description: Datasheet; ComponentLink2URL: http://katalog.we-online.de/pbs/datasheet/865080545012.pdf; Created by: Karrer Zheng; Created Date: 5/13/2015; Capacitance: 100 μF; Application: Energy storage or high frequency filtering in the low voltage circuit; used as power supply filtering in general switching power supply, DC-DC converter, AC-DC converter, conversion adapter, charger, TV, VCR, DC motor circuit filter, digital audio, digital TV, digital camera, digital video camera, satellite receiver, equipment control panel and etc.
footprint WCAP-ASLI 6.3x7.7x2.2
pins: 1, 2

## WCAP-ASLI 8x10.5x3.1 865080553013
designator C?, comment 150 μF
WCAP-ASLI Aluminum Electrolytic Capacitors , 150 μF; + / - 20%; 35 V , 8 x 10,5; Manufacturer: Wurth Elektronik; partNo: 865080553013; E-mail: libraries@we-online.com; Characteristics: Aluminum Electrolytic Capacitor;Recommended soldering: Reflow;Operating temperature: –55 °C to +105 °C;Low impedance product series;Load life: 2000 h @ +105 °C; ComponentLink1Description: Manufacturer; ComponentLink1URL: http://www.we-online.com; ComponentLink2Description: Datasheet; ComponentLink2URL: http://katalog.we-online.de/pbs/datasheet/865080553013.pdf; Created by: Karrer Zheng; Created Date: 5/13/2015; Capacitance: 150 μF; Application: Energy storage or high frequency filtering in the low voltage circuit; used as power supply filtering in general switching power supply, DC-DC converter, AC-DC converter, conversion adapter, charger, TV, VCR, DC motor circuit filter, digital audio, digital TV, digital camera, digital video camera, satellite receiver, equipment control panel and etc.
footprint WCAP-ASLI 8x10.5x3.1
pins: 1, 2

## WCAP-ASLI 8x10.5x3.1 865080553014
designator C?, comment 220 μF
WCAP-ASLI Aluminum Electrolytic Capacitors , 220 μF; + / - 20%; 35 V , 8 x 10,5; Manufacturer: Wurth Elektronik; partNo: 865080553014; E-mail: libraries@we-online.com; Characteristics: Aluminum Electrolytic Capacitor;Recommended soldering: Reflow;Operating temperature: –55 °C to +105 °C;Low impedance product series;Load life: 2000 h @ +105 °C; ComponentLink1Description: Manufacturer; ComponentLink1URL: http://www.we-online.com; ComponentLink2Description: Datasheet; ComponentLink2URL: http://katalog.we-online.de/pbs/datasheet/865080553014.pdf; Created by: Karrer Zheng; Created Date: 5/13/2015; Capacitance: 220 μF; Application: Energy storage or high frequency filtering in the low voltage circuit; used as power supply filtering in general switching power supply, DC-DC converter, AC-DC converter, conversion adapter, charger, TV, VCR, DC motor circuit filter, digital audio, digital TV, digital camera, digital video camera, satellite receiver, equipment control panel and etc.
footprint WCAP-ASLI 8x10.5x3.1
pins: 1, 2

## WCAP-ASLI 10x10.5x4.5 865080557015
designator C?, comment 330 μF
WCAP-ASLI Aluminum Electrolytic Capacitors , 330 μF; + / - 20%; 35 V , 10 x 10,5; Manufacturer: Wurth Elektronik; partNo: 865080557015; E-mail: libraries@we-online.com; Characteristics: Aluminum Electrolytic Capacitor;Recommended soldering: Reflow;Operating temperature: –55 °C to +105 °C;Low impedance product series;Load life: 2000 h @ +105 °C; ComponentLink1Description: Manufacturer; ComponentLink1URL: http://www.we-online.com; ComponentLink2Description: Datasheet; ComponentLink2URL: http://katalog.we-online.de/pbs/datasheet/865080557015.pdf; Created by: Karrer Zheng; Created Date: 5/13/2015; Capacitance: 330 μF; Application: Energy storage or high frequency filtering in the low voltage circuit; used as power supply filtering in general switching power supply, DC-DC converter, AC-DC converter, conversion adapter, charger, TV, VCR, DC motor circuit filter, digital audio, digital TV, digital camera, digital video camera, satellite receiver, equipment control panel and etc.
footprint WCAP-ASLI 10x10.5x4.5
pins: 1, 2

## WCAP-ASLI 12.5x14x4.5 865080562016
designator C?, comment 470 μF
WCAP-ASLI Aluminum Electrolytic Capacitors , 470 μF; + / - 20%; 35 V , 12,5 x 14; Manufacturer: Wurth Elektronik; partNo: 865080562016; E-mail: libraries@we-online.com; Characteristics: Aluminum Electrolytic Capacitor;Recommended soldering: Reflow;Operating temperature: –55 °C to +105 °C;Low impedance product series;Load life: 2000 h @ +105 °C; ComponentLink1Description: Manufacturer; ComponentLink1URL: http://www.we-online.com; ComponentLink2Description: Datasheet; ComponentLink2URL: http://katalog.we-online.de/pbs/datasheet/865080562016.pdf; Created by: Karrer Zheng; Created Date: 5/13/2015; Capacitance: 470 μF; Application: Energy storage or high frequency filtering in the low voltage circuit; used as power supply filtering in general switching power supply, DC-DC converter, AC-DC converter, conversion adapter, charger, TV, VCR, DC motor circuit filter, digital audio, digital TV, digital camera, digital video camera, satellite receiver, equipment control panel and etc.
footprint WCAP-ASLI 12.5x14x4.5
pins: 1, 2

## WCAP-ASLI 12.5x14x4.5 865080562017
designator C?, comment 680 μF
WCAP-ASLI Aluminum Electrolytic Capacitors , 680 μF; + / - 20%; 35 V , 12,5 x 14; Manufacturer: Wurth Elektronik; partNo: 865080562017; E-mail: libraries@we-online.com; Characteristics: Aluminum Electrolytic Capacitor;Recommended soldering: Reflow;Operating temperature: –55 °C to +105 °C;Low impedance product series;Load life: 2000 h @ +105 °C; ComponentLink1Description: Manufacturer; ComponentLink1URL: http://www.we-online.com; ComponentLink2Description: Datasheet; ComponentLink2URL: http://katalog.we-online.de/pbs/datasheet/865080562017.pdf; Created by: Karrer Zheng; Created Date: 5/13/2015; Capacitance: 680 μF; Application: Energy storage or high frequency filtering in the low voltage circuit; used as power supply filtering in general switching power supply, DC-DC converter, AC-DC converter, conversion adapter, charger, TV, VCR, DC motor circuit filter, digital audio, digital TV, digital camera, digital video camera, satellite receiver, equipment control panel and etc.
footprint WCAP-ASLI 12.5x14x4.5
pins: 1, 2

## WCAP-ASLI 16x17x7 865080563018
designator C?, comment 1500 μF
WCAP-ASLI Aluminum Electrolytic Capacitors , 1500 μF; + / - 20%; 35 V , 16 x 17; Manufacturer: Wurth Elektronik; partNo: 865080563018; E-mail: libraries@we-online.com; Characteristics: Aluminum Electrolytic Capacitor;Recommended soldering: Reflow;Operating temperature: –55 °C to +105 °C;Low impedance product series;Load life: 2000 h @ +105 °C; ComponentLink1Description: Manufacturer; ComponentLink1URL: http://www.we-online.com; ComponentLink2Description: Datasheet; ComponentLink2URL: http://katalog.we-online.de/pbs/datasheet/865080563018.pdf; Created by: Karrer Zheng; Created Date: 5/13/2015; Capacitance: 1500 μF; Application: Energy storage or high frequency filtering in the low voltage circuit; used as power supply filtering in general switching power supply, DC-DC converter, AC-DC converter, conversion adapter, charger, TV, VCR, DC motor circuit filter, digital audio, digital TV, digital camera, digital video camera, satellite receiver, equipment control panel and etc.
footprint WCAP-ASLI 16x17x7
pins: 1, 2


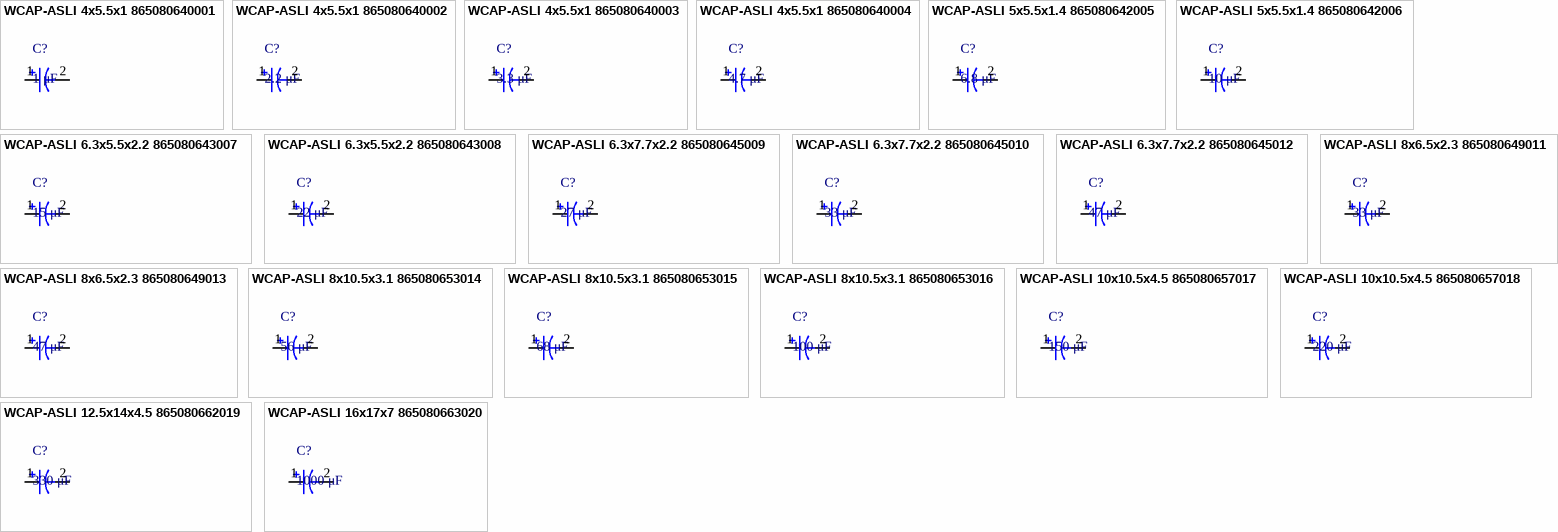
[diagram p5: symbols WCAP-ASLI 4x5.5x1 865080640001 to WCAP-ASLI 16x17x7 865080663020]

## WCAP-ASLI 4x5.5x1 865080640001
designator C?, comment 1 μF
WCAP-ASLI Aluminum Electrolytic Capacitors , 1 μF; + / - 20%; 50 V , 4 x 5,5; Manufacturer: Wurth Elektronik; partNo: 865080640001; E-mail: libraries@we-online.com; Characteristics: Aluminum Electrolytic Capacitor;Recommended soldering: Reflow;Operating temperature: –55 °C to +105 °C;Low impedance product series;Load life: 2000 h @ +105 °C; ComponentLink1Description: Manufacturer; ComponentLink1URL: http://www.we-online.com; ComponentLink2Description: Datasheet; ComponentLink2URL: http://katalog.we-online.de/pbs/datasheet/865080640001.pdf; Created by: Karrer Zheng; Created Date: 5/13/2015; Capacitance: 1 μF; Application: Energy storage or high frequency filtering in the low voltage circuit; used as power supply filtering in general switching power supply, DC-DC converter, AC-DC converter, conversion adapter, charger, TV, VCR, DC motor circuit filter, digital audio, digital TV, digital camera, digital video camera, satellite receiver, equipment control panel and etc.
footprint WCAP-ASLI 4x5.5x1
pins: 1, 2

## WCAP-ASLI 4x5.5x1 865080640002
designator C?, comment 2.2 μF
WCAP-ASLI Aluminum Electrolytic Capacitors , 2,2 μF; + / - 20%; 50 V , 4 x 5,5; Manufacturer: Wurth Elektronik; partNo: 865080640002; E-mail: libraries@we-online.com; Characteristics: Aluminum Electrolytic Capacitor;Recommended soldering: Reflow;Operating temperature: –55 °C to +105 °C;Low impedance product series;Load life: 2000 h @ +105 °C; ComponentLink1Description: Manufacturer; ComponentLink1URL: http://www.we-online.com; ComponentLink2Description: Datasheet; ComponentLink2URL: http://katalog.we-online.de/pbs/datasheet/865080640002.pdf; Created by: Karrer Zheng; Created Date: 5/13/2015; Capacitance: 2.2 μF; Application: Energy storage or high frequency filtering in the low voltage circuit; used as power supply filtering in general switching power supply, DC-DC converter, AC-DC converter, conversion adapter, charger, TV, VCR, DC motor circuit filter, digital audio, digital TV, digital camera, digital video camera, satellite receiver, equipment control panel and etc.
footprint WCAP-ASLI 4x5.5x1
pins: 1, 2

## WCAP-ASLI 4x5.5x1 865080640003
designator C?, comment 3.3 μF
WCAP-ASLI Aluminum Electrolytic Capacitors , 3,3 μF; + / - 20%; 50 V , 4 x 5,5; Manufacturer: Wurth Elektronik; partNo: 865080640003; E-mail: libraries@we-online.com; Characteristics: Aluminum Electrolytic Capacitor;Recommended soldering: Reflow;Operating temperature: –55 °C to +105 °C;Low impedance product series;Load life: 2000 h @ +105 °C; ComponentLink1Description: Manufacturer; ComponentLink1URL: http://www.we-online.com; ComponentLink2Description: Datasheet; ComponentLink2URL: http://katalog.we-online.de/pbs/datasheet/865080640003.pdf; Created by: Karrer Zheng; Created Date: 5/13/2015; Capacitance: 3.3 μF; Application: Energy storage or high frequency filtering in the low voltage circuit; used as power supply filtering in general switching power supply, DC-DC converter, AC-DC converter, conversion adapter, charger, TV, VCR, DC motor circuit filter, digital audio, digital TV, digital camera, digital video camera, satellite receiver, equipment control panel and etc.
footprint WCAP-ASLI 4x5.5x1
pins: 1, 2